# EAGLE library part KXN_MKL-BT01 (library kxn_Standard_wireless_module)
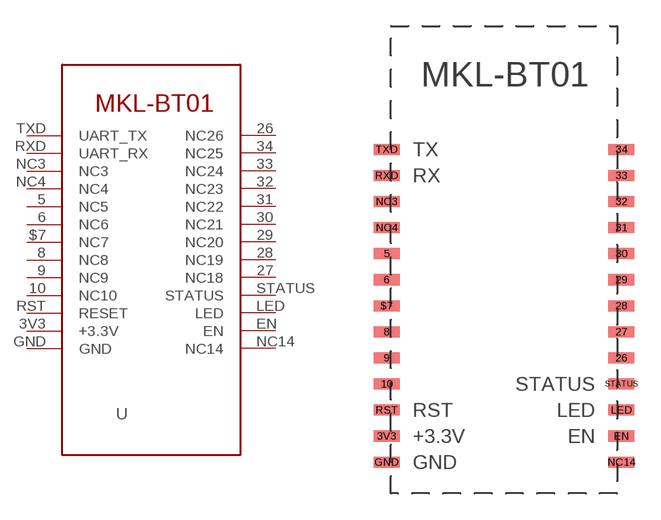
[diagram p1: symbol with the pads of JDY33PAC; footprint JDY33PAC]

Designator prefix -

## KXN_MKL-BT01  [JDY33PAC]
3V3  +3.3V  pwr
5  NC5
6  NC6
8  NC8
9  NC9
10  NC10
26  NC26
27  NC18
28  NC19
29  NC20
30  NC21
31  NC22
32  NC23
33  NC24
34  NC25
$7  NC7
EN  EN
GND  GND  pwr
LED  LED
NC3  NC3
NC4  NC4
NC14  NC14
RST  RESET
RXD  UART_RX
STATUS  STATUS
TXD  UART_TX

## Footprint JDY33PAC (pad centres in mm)
JDY33
smd 1.5 x 0.635: 3V3 -6.75,-6.35; 5 -6.75,4.15; 6 -6.75,2.65; 8 -6.75,-0.35; 9 -6.75,-1.85; 10 -6.75,-3.35; 26 6.75,-1.85; 27 6.75,-0.35; 28 6.75,1.15; 29 6.75,2.65; 30 6.75,4.15; 31 6.75,5.65; 32 6.75,7.15; 33 6.75,8.65; 34 6.75,10.15; $7 -6.75,1.15; EN 6.75,-6.35; GND -6.75,-7.85; LED 6.75,-4.85; NC3 -6.75,7.15; NC4 -6.75,5.65; NC14 6.75,-7.85; RST -6.75,-4.85; RXD -6.75,8.65; STATUS 6.75,-3.35; TXD -6.75,10.15